# EAGLE library part HLW8012 (library hlw8012)
MOS FET
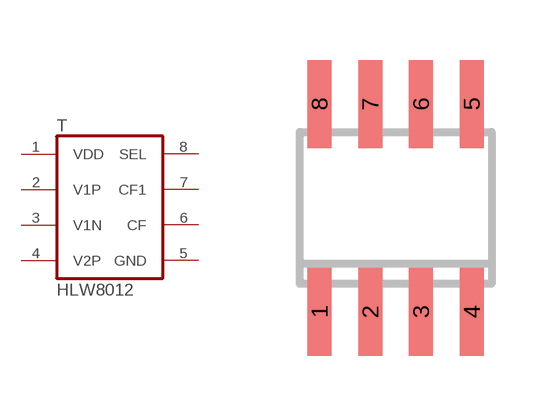
[diagram p0: symbol with the pads of SO8; footprint SO8]

Designator prefix T

## HLW8012  [SO8]
1  VDD  pwr
2  V1P  in
3  V1N  in
4  V2P  in
5  GND  pwr
6  CF  out
7  CF1  out
8  SEL  in

## Footprint SO8 (pad centres in mm)
SMALL OUTLINE INTEGRATED CIRCUIT SOP-8L Source: http://www.diodes.com/datasheets/ds31262.pdf
smd 0.6 x 2.2: 1 -1.905,-2.6; 2 -0.635,-2.6; 3 0.635,-2.6; 4 1.905,-2.6; 5 1.905,2.6; 6 0.635,2.6; 7 -0.635,2.6; 8 -1.905,2.6